# Altium schematic symbol library CAP.SchLib: 1 symbol
Pins are listed as number, name and electrical type; pins without a type are passive.

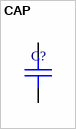
[diagram p0: symbol CAP]

## CAP
designator C?  (value not drawn)
pins: 1, 2